# Altium footprint library TW-02.PcbLib: 1 footprints
Each footprint in its own frame and in the unit in brackets; x right, y up, seen from the top. Pads: shape width x height; smd on the part's side, far side on the other; paste and mask are expansions set on the pad; w line width, h text height; cw(c..) or ccw(c..) is an arc to the next point about the centre after c.
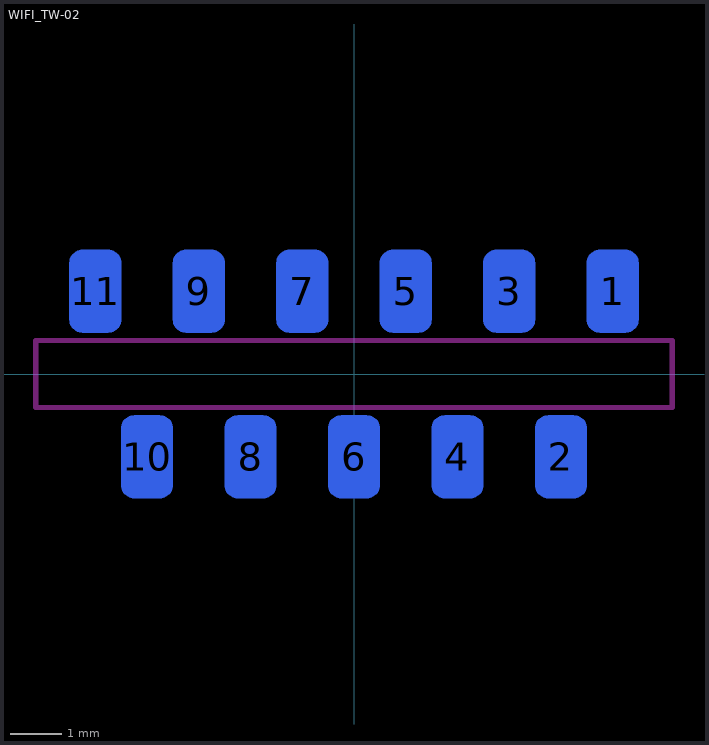
[diagram p0: the footprint, top view; thin cyan lines are the x and y axes]

## WIFI_TW-02 [mm] "涂鸦WiFi模块封装"
height 3.1
pads (11):
  rrect50% 1x1.6 smd far side paste-1.6 mask+0.051: 1(5,1.6) 2(4,-1.6) 3(3,1.6) 4(2,-1.6) 5(1,1.6) 6(0,-1.6) 7(-1,1.6) 8(-2,-1.6) 9(-3,1.6) 10(-4,-1.6) 11(-5,1.6)
Keep-Out Layer:
  lines w0.1: -6.15,-0.65 6.15,-0.65 6.15,0.65 -6.15,0.65 -6.15,-0.65